# EAGLE library part SP721 (library input_protection)
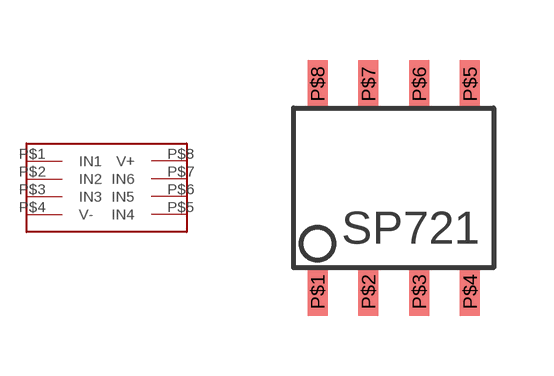
[diagram p0: symbol with the pads of SOIC; footprint SOIC]

Designator prefix -

## SP721  [SOIC]
P$1  IN1
P$2  IN2
P$3  IN3
P$4  V-
P$5  IN4
P$6  IN5
P$7  IN6
P$8  V+

## Footprint SOIC (pad centres in mm)
smd 0.5 x 1.2: P$1 0,-5.2; P$2 1.27,-5.2; P$3 2.54,-5.2; P$4 3.81,-5.2; P$5 3.81,0; P$6 2.54,0; P$7 1.27,0; P$8 0,0